# EAGLE library part DRV8711DCPR (library DRV8711DCPR)
52-V, bipolar stepper motor gate driver with 1/256 microstepping & stall detect 38-HTSSOP -40 to 85 Check prices <https://pricing.snapeda.com/parts/DRV8711DCPR/Texas%20Instruments/view-part?ref=eda>
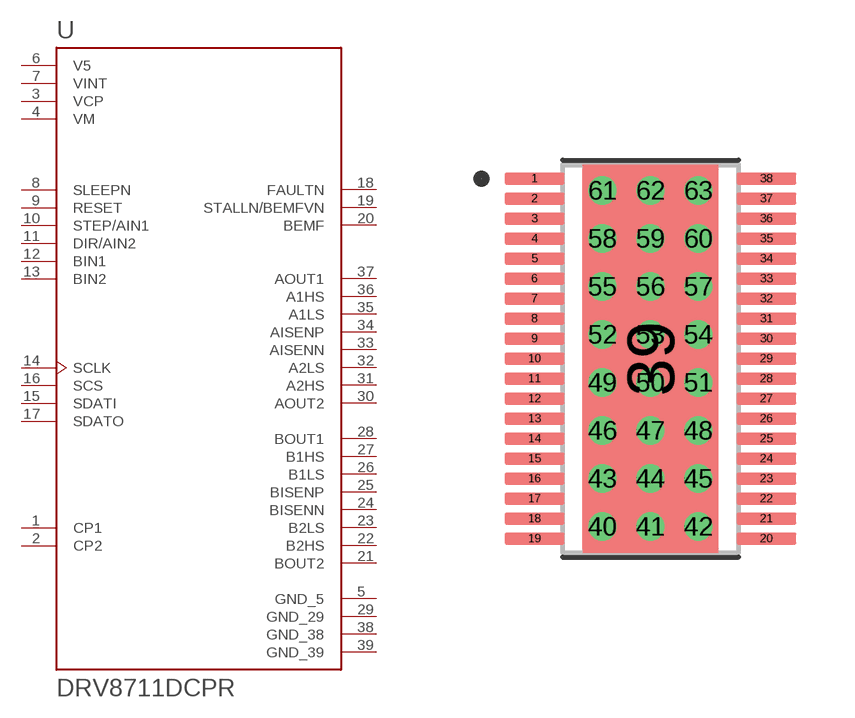
[diagram p0: symbol with the pads of IC_DRV8711DCPR; footprint IC_DRV8711DCPR]

Designator prefix U

## DRV8711DCPR (Availability: Warning; Description: 52-V, bipolar stepper motor gate driver with 1/256 microstepping & stall detect 38-HTSSOP -40 to 85; MF: Texas Instruments; MP: DRV8711DCPR; Package: HTSSOP-38 Texas Instruments; Price: None; Purchase-URL: https://pricing.snapeda.com/search/part/DRV8711DCPR/?ref=eda)  [IC_DRV8711DCPR]
1  CP1
2  CP2
3  VCP  pwr
4  VM  pwr
5  GND_5  pwr
6  V5  pwr
7  VINT  pwr
8  SLEEPN  in
9  RESET  in
10  STEP/AIN1  in
11  DIR/AIN2  in
12  BIN1  in
13  BIN2  in
14  SCLK  in
15  SDATI  in
16  SCS  in
17  SDATO  out
18  FAULTN  out
19  STALLN/BEMFVN  out
20  BEMF  out
21  BOUT2  in
22  B2HS  out
23  B2LS  out
24  BISENN  in
25  BISENP  in
26  B1LS  out
27  B1HS  out
28  BOUT1  in
29  GND_29  pwr
30  AOUT2  in
31  A2HS  out
32  A2LS  out
33  AISENN  in
34  AISENP  in
35  A1LS  out
36  A1HS  out
37  AOUT1  in
38  GND_38  pwr
39  GND_39  pwr

## Footprint IC_DRV8711DCPR (pad centres in mm)
smd 1.5 x 0.3: 1 -2.9,4.5; 2 -2.9,4; 3 -2.9,3.5; 4 -2.9,3; 5 -2.9,2.5; 6 -2.9,2; 7 -2.9,1.5; 8 -2.9,1; 9 -2.9,0.5; 10 -2.9,0; 11 -2.9,-0.5; 12 -2.9,-1; 13 -2.9,-1.5; 14 -2.9,-2; 15 -2.9,-2.5; 16 -2.9,-3; 17 -2.9,-3.5; 18 -2.9,-4; 19 -2.9,-4.5; 20 2.9,-4.5; 21 2.9,-4; 22 2.9,-3.5; 23 2.9,-3; 24 2.9,-2.5; 25 2.9,-2; 26 2.9,-1.5; 27 2.9,-1; 28 2.9,-0.5; 29 2.9,0; 30 2.9,0.5; 31 2.9,1; 32 2.9,1.5; 33 2.9,2; 34 2.9,2.5; 35 2.9,3; 36 2.9,3.5; 37 2.9,4; 38 2.9,4.5
smd 3.4 x 9.7: 39 0,0
drill 0.2 pad 0.3: 40 -1.2,-4.2; 41 0,-4.2; 42 1.2,-4.2; 43 -1.2,-3; 44 0,-3; 45 1.2,-3; 46 -1.2,-1.8; 47 0,-1.8; 48 1.2,-1.8; 49 -1.2,-0.6; 50 0,-0.6; 51 1.2,-0.6; 52 -1.2,0.6; 53 0,0.6; 54 1.2,0.6; 55 -1.2,1.8; 56 0,1.8; 57 1.2,1.8; 58 -1.2,3; 59 0,3; 60 1.2,3; 61 -1.2,4.2; 62 0,4.2; 63 1.2,4.2